# Altium integrated library Zarlink Comm CODEC Filter.IntLib: 20 symbols
Pins are listed as number, name and electrical type; pins without a type are passive.

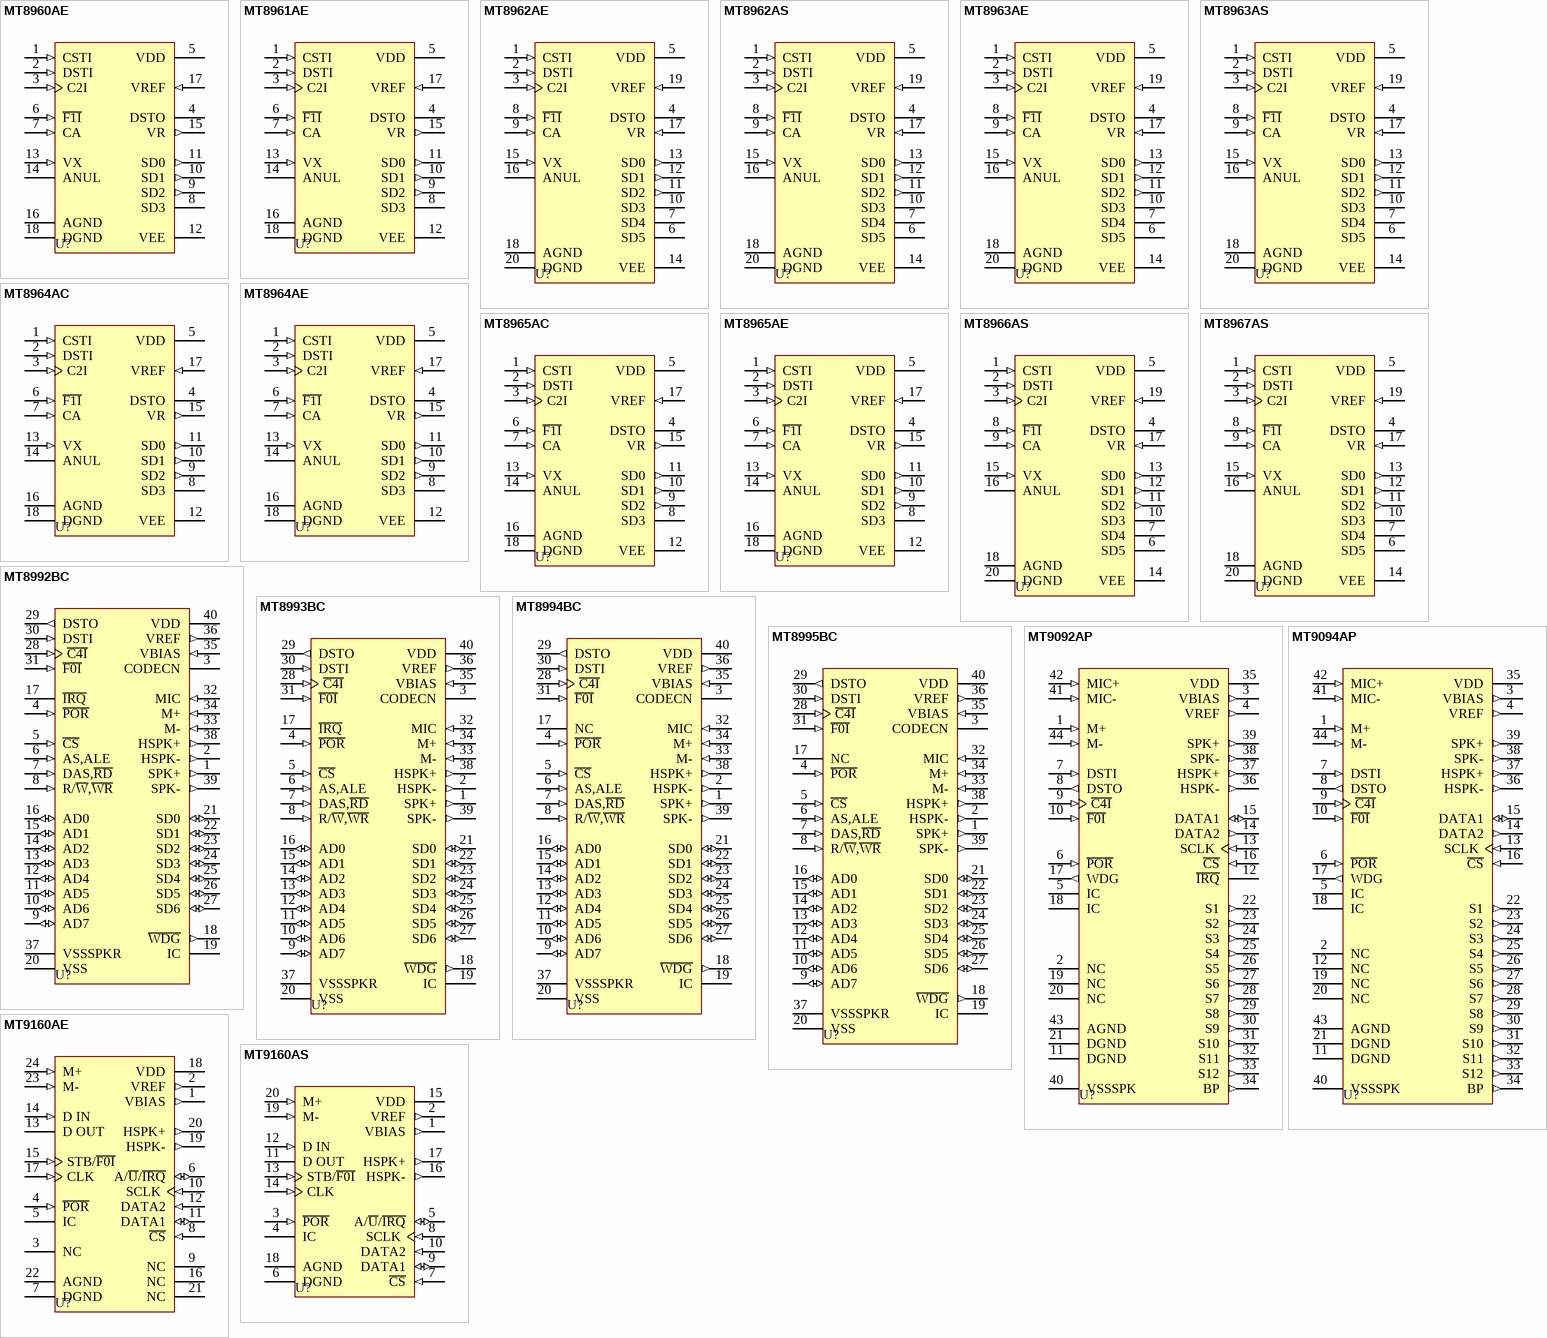
[diagram p0: symbols MT8960AE to MT9160AS]

## MT8960AE
designator U?
Integrated PCM Filter Codec; Published: 8-Jun-2000; LatestRevisionDate: 17-Jul-2002; LatestRevisionNote: Re-released for DXP Platform.; DatasheetVersion: Issue 10 May 1995; PackageVersion: 1997; PackageReference: PDIP18; Publisher: Altium Limited; PackageDescription: DIP; 18 Leads; Row Spacing 7.62 mm; Pitch 2.54 mm; ComponentLink1Description: Manufacturer Link; ComponentLink1URL: http://products.zarlink.com; ComponentLink2Description: Datasheet; ComponentLink2URL: http://assets.zarlink.com/DS/zarlink_MT8960_JUL_05.pdf
footprint PDIP18 (DIP; 18 Leads; Row Spacing 7.62 mm; Pitch 2.54 mm)
pins: 1 CSTI (in), 2 DSTI (in), 3 C2I (in), 4 DSTO (hiz), 5 VDD (power), 6 ~{F1I} (in), 7 CA (in), 8 SD3 (oc), 9 SD2 (out), 10 SD1 (out), 11 SD0 (out), 12 VEE (power), 13 VX (in), 14 ANUL, 15 VR (out), 16 AGND (power), 17 VREF (in), 18 DGND (power)

## MT8961AE
designator U?
Integrated PCM Filter Codec; Published: 8-Jun-2000; LatestRevisionDate: 17-Jul-2002; LatestRevisionNote: Re-released for DXP Platform.; DatasheetVersion: Issue 10 May 1995; PackageVersion: 1997; PackageReference: PDIP18; Publisher: Altium Limited; PackageDescription: DIP; 18 Leads; Row Spacing 7.62 mm; Pitch 2.54 mm; ComponentLink1Description: Manufacturer Link; ComponentLink1URL: http://products.zarlink.com; ComponentLink2Description: Datasheet; ComponentLink2URL: http://assets.zarlink.com/DS/zarlink_MT8960_JUL_05.pdf
footprint PDIP18 (DIP; 18 Leads; Row Spacing 7.62 mm; Pitch 2.54 mm)
pins: 1 CSTI (in), 2 DSTI (in), 3 C2I (in), 4 DSTO (hiz), 5 VDD (power), 6 ~{F1I} (in), 7 CA (in), 8 SD3 (oc), 9 SD2 (out), 10 SD1 (out), 11 SD0 (out), 12 VEE (power), 13 VX (in), 14 ANUL, 15 VR (out), 16 AGND (power), 17 VREF (in), 18 DGND (power)

## MT8962AE
designator U?
Integrated PCM Filter Codec; Published: 8-Jun-2000; LatestRevisionDate: 17-Jul-2002; LatestRevisionNote: Re-released for DXP Platform.; DatasheetVersion: Issue 10 May 1995; PackageVersion: 1997; PackageReference: PDIP20; Publisher: Altium Limited; PackageDescription: DIP; 20 Leads; Row Spacing 7.62 mm; Pitch 2.54 mm; Code_JEDEC: MS-001-AD; ComponentLink1Description: Manufacturer Link; ComponentLink1URL: http://products.zarlink.com; ComponentLink2Description: Datasheet; ComponentLink2URL: http://assets.zarlink.com/DS/zarlink_MT8960_JUL_05.pdf
footprint PDIP20 (DIP; 20 Leads; Row Spacing 7.62 mm; Pitch 2.54 mm)
pins: 1 CSTI (in), 2 DSTI (in), 3 C2I (in), 4 DSTO (hiz), 5 VDD (power), 6 SD5 (oc), 7 SD4 (oc), 8 ~{F1I} (in), 9 CA (in), 10 SD3 (oc), 11 SD2 (out), 12 SD1 (out), 13 SD0 (out), 14 VEE (power), 15 VX (in), 16 ANUL, 17 VR (in), 18 AGND (power), 19 VREF (in), 20 DGND (power)

## MT8962AS
designator U?
Integrated PCM Filter Codec; Published: 8-Jun-2000; LatestRevisionDate: 13-Apr-2006; LatestRevisionNote: IPC-7351 Footprint Added.; DatasheetVersion: Issue 10 May 1995; PackageVersion: 1997; PackageReference: SOIC20; Publisher: Altium Limited; PackageDescription: 20-Pin Small Outline Integrated Circuit 1.27 mm Pitch; Code_JEDEC: MS-013-AC; Code_IPC: SOIC127P1030-20; ComponentLink1Description: Manufacturer Link; ComponentLink1URL: http://products.zarlink.com; ComponentLink2Description: Datasheet; ComponentLink2URL: http://assets.zarlink.com/DS/zarlink_MT8960_JUL_05.pdf
footprint SOIC20_N (SOIC, 20-Leads, Body 12.8x7.6mm, Pitch 1.27mm, IPC Medium Density)
footprint SOIC20_L (SOIC, 20-Leads, Body 12.8x7.6mm, Pitch 1.27mm, IPC High Density)
footprint SOIC20_M (SOIC, 20-Leads, Body 12.8x7.6mm, Pitch 1.27mm, IPC Low Density)
pins: 1 CSTI (in), 2 DSTI (in), 3 C2I (in), 4 DSTO (hiz), 5 VDD (power), 6 SD5 (oc), 7 SD4 (oc), 8 ~{F1I} (in), 9 CA (in), 10 SD3 (oc), 11 SD2 (out), 12 SD1 (out), 13 SD0 (out), 14 VEE (power), 15 VX (in), 16 ANUL, 17 VR (in), 18 AGND (power), 19 VREF (in), 20 DGND (power)

## MT8963AE
designator U?
Integrated PCM Filter Codec; Published: 8-Jun-2000; LatestRevisionDate: 17-Jul-2002; LatestRevisionNote: Re-released for DXP Platform.; DatasheetVersion: Issue 10 May 1995; PackageVersion: 1997; PackageReference: PDIP20; Publisher: Altium Limited; PackageDescription: DIP; 20 Leads; Row Spacing 7.62 mm; Pitch 2.54 mm; Code_JEDEC: MS-001-AD; ComponentLink1Description: Manufacturer Link; ComponentLink1URL: http://products.zarlink.com; ComponentLink2Description: Datasheet; ComponentLink2URL: http://assets.zarlink.com/DS/zarlink_MT8960_JUL_05.pdf
footprint PDIP20 (DIP; 20 Leads; Row Spacing 7.62 mm; Pitch 2.54 mm)
pins: 1 CSTI (in), 2 DSTI (in), 3 C2I (in), 4 DSTO (hiz), 5 VDD (power), 6 SD5 (oc), 7 SD4 (oc), 8 ~{F1I} (in), 9 CA (in), 10 SD3 (oc), 11 SD2 (out), 12 SD1 (out), 13 SD0 (out), 14 VEE (power), 15 VX (in), 16 ANUL, 17 VR (in), 18 AGND (power), 19 VREF (in), 20 DGND (power)

## MT8963AS
designator U?
Integrated PCM Filter Codec; Published: 8-Jun-2000; LatestRevisionDate: 13-Apr-2006; LatestRevisionNote: IPC-7351 Footprint Added.; DatasheetVersion: Issue 10 May 1995; PackageVersion: 1997; PackageReference: SOIC20; Publisher: Altium Limited; PackageDescription: 20-Pin Small Outline Integrated Circuit 1.27 mm Pitch; Code_JEDEC: MS-013-AC; Code_IPC: SOIC127P1030-20; ComponentLink1Description: Manufacturer Link; ComponentLink1URL: http://products.zarlink.com; ComponentLink2Description: Datasheet; ComponentLink2URL: http://assets.zarlink.com/DS/zarlink_MT8960_JUL_05.pdf
footprint SOIC20_N (SOIC, 20-Leads, Body 12.8x7.6mm, Pitch 1.27mm, IPC Medium Density)
footprint SOIC20_L (SOIC, 20-Leads, Body 12.8x7.6mm, Pitch 1.27mm, IPC High Density)
footprint SOIC20_M (SOIC, 20-Leads, Body 12.8x7.6mm, Pitch 1.27mm, IPC Low Density)
pins: 1 CSTI (in), 2 DSTI (in), 3 C2I (in), 4 DSTO (hiz), 5 VDD (power), 6 SD5 (oc), 7 SD4 (oc), 8 ~{F1I} (in), 9 CA (in), 10 SD3 (oc), 11 SD2 (out), 12 SD1 (out), 13 SD0 (out), 14 VEE (power), 15 VX (in), 16 ANUL, 17 VR (in), 18 AGND (power), 19 VREF (in), 20 DGND (power)

## MT8964AC
designator U?
Integrated PCM Filter Codec; Published: 8-Jun-2000; LatestRevisionDate: 17-Jul-2002; LatestRevisionNote: Re-released for DXP Platform.; DatasheetVersion: Issue 10 May 1995; PackageVersion: 1995; PackageReference: CDIP18; Publisher: Altium Limited; PackageDescription: DIP; 18 Leads; Row Spacing 7.62 mm; Pitch 2.54 mm; ComponentLink1Description: Manufacturer Link; ComponentLink1URL: http://products.zarlink.com; ComponentLink2Description: Datasheet; ComponentLink2URL: http://assets.zarlink.com/DS/zarlink_MT8960_JUL_05.pdf
footprint CDIP18 (DIP; 18 Leads; Row Spacing 7.62 mm; Pitch 2.54 mm)
pins: 1 CSTI (in), 2 DSTI (in), 3 C2I (in), 4 DSTO (hiz), 5 VDD (power), 6 ~{F1I} (in), 7 CA (in), 8 SD3 (oc), 9 SD2 (out), 10 SD1 (out), 11 SD0 (out), 12 VEE (power), 13 VX (in), 14 ANUL, 15 VR (out), 16 AGND (power), 17 VREF (in), 18 DGND (power)

## MT8964AE
designator U?
Integrated PCM Filter Codec; Published: 8-Jun-2000; LatestRevisionDate: 17-Jul-2002; LatestRevisionNote: Re-released for DXP Platform.; DatasheetVersion: Issue 10 May 1995; PackageVersion: 1997; PackageReference: PDIP18; Publisher: Altium Limited; PackageDescription: DIP; 18 Leads; Row Spacing 7.62 mm; Pitch 2.54 mm; ComponentLink1Description: Manufacturer Link; ComponentLink1URL: http://products.zarlink.com; ComponentLink2Description: Datasheet; ComponentLink2URL: http://assets.zarlink.com/DS/zarlink_MT8960_JUL_05.pdf
footprint PDIP18 (DIP; 18 Leads; Row Spacing 7.62 mm; Pitch 2.54 mm)
pins: 1 CSTI (in), 2 DSTI (in), 3 C2I (in), 4 DSTO (hiz), 5 VDD (power), 6 ~{F1I} (in), 7 CA (in), 8 SD3 (oc), 9 SD2 (out), 10 SD1 (out), 11 SD0 (out), 12 VEE (power), 13 VX (in), 14 ANUL, 15 VR (out), 16 AGND (power), 17 VREF (in), 18 DGND (power)

## MT8965AC
designator U?
Integrated PCM Filter Codec; Published: 8-Jun-2000; LatestRevisionDate: 17-Jul-2002; LatestRevisionNote: Re-released for DXP Platform.; DatasheetVersion: Issue 10 May 1995; PackageVersion: 1995; PackageReference: CDIP18; Publisher: Altium Limited; PackageDescription: DIP; 18 Leads; Row Spacing 7.62 mm; Pitch 2.54 mm; ComponentLink1Description: Manufacturer Link; ComponentLink1URL: http://products.zarlink.com; ComponentLink2Description: Datasheet; ComponentLink2URL: http://assets.zarlink.com/DS/zarlink_MT8960_JUL_05.pdf
footprint CDIP18 (DIP; 18 Leads; Row Spacing 7.62 mm; Pitch 2.54 mm)
pins: 1 CSTI (in), 2 DSTI (in), 3 C2I (in), 4 DSTO (hiz), 5 VDD (power), 6 ~{F1I} (in), 7 CA (in), 8 SD3 (oc), 9 SD2 (out), 10 SD1 (out), 11 SD0 (out), 12 VEE (power), 13 VX (in), 14 ANUL, 15 VR (out), 16 AGND (power), 17 VREF (in), 18 DGND (power)

## MT8965AE
designator U?
Integrated PCM Filter Codec; Published: 8-Jun-2000; LatestRevisionDate: 17-Jul-2002; LatestRevisionNote: Re-released for DXP Platform.; DatasheetVersion: Issue 10 May 1995; PackageVersion: 1997; PackageReference: PDIP18; Publisher: Altium Limited; PackageDescription: DIP; 18 Leads; Row Spacing 7.62 mm; Pitch 2.54 mm; ComponentLink1Description: Manufacturer Link; ComponentLink1URL: http://products.zarlink.com; ComponentLink2Description: Datasheet; ComponentLink2URL: http://assets.zarlink.com/DS/zarlink_MT8960_JUL_05.pdf
footprint PDIP18 (DIP; 18 Leads; Row Spacing 7.62 mm; Pitch 2.54 mm)
pins: 1 CSTI (in), 2 DSTI (in), 3 C2I (in), 4 DSTO (hiz), 5 VDD (power), 6 ~{F1I} (in), 7 CA (in), 8 SD3 (oc), 9 SD2 (out), 10 SD1 (out), 11 SD0 (out), 12 VEE (power), 13 VX (in), 14 ANUL, 15 VR (out), 16 AGND (power), 17 VREF (in), 18 DGND (power)

## MT8966AS
designator U?
Integrated PCM Filter Codec; Published: 8-Jun-2000; LatestRevisionDate: 13-Apr-2006; LatestRevisionNote: IPC-7351 Footprint Added.; DatasheetVersion: Issue 10 May 1995; PackageVersion: 1997; PackageReference: SOIC20; Publisher: Altium Limited; PackageDescription: 20-Pin Small Outline Integrated Circuit 1.27 mm Pitch; Code_JEDEC: MS-013-AC; Code_IPC: SOIC127P1030-20; ComponentLink1Description: Manufacturer Link; ComponentLink1URL: http://products.zarlink.com; ComponentLink2Description: Datasheet; ComponentLink2URL: http://assets.zarlink.com/DS/zarlink_MT8960_JUL_05.pdf
footprint SOIC20_N (SOIC, 20-Leads, Body 12.8x7.6mm, Pitch 1.27mm, IPC Medium Density)
footprint SOIC20_L (SOIC, 20-Leads, Body 12.8x7.6mm, Pitch 1.27mm, IPC High Density)
footprint SOIC20_M (SOIC, 20-Leads, Body 12.8x7.6mm, Pitch 1.27mm, IPC Low Density)
pins: 1 CSTI (in), 2 DSTI (in), 3 C2I (in), 4 DSTO (hiz), 5 VDD (power), 6 SD5 (oc), 7 SD4 (oc), 8 ~{F1I} (in), 9 CA (in), 10 SD3 (oc), 11 SD2 (out), 12 SD1 (out), 13 SD0 (out), 14 VEE (power), 15 VX (in), 16 ANUL, 17 VR (in), 18 AGND (power), 19 VREF (in), 20 DGND (power)

## MT8967AS
designator U?
Integrated PCM Filter Codec; Published: 8-Jun-2000; LatestRevisionDate: 13-Apr-2006; LatestRevisionNote: IPC-7351 Footprint Added.; DatasheetVersion: Issue 10 May 1995; PackageVersion: 1997; PackageReference: SOIC20; Publisher: Altium Limited; PackageDescription: 20-Pin Small Outline Integrated Circuit 1.27 mm Pitch; Code_JEDEC: MS-013-AC; Code_IPC: SOIC127P1030-20; ComponentLink1Description: Manufacturer Link; ComponentLink1URL: http://products.zarlink.com; ComponentLink2Description: Datasheet; ComponentLink2URL: http://assets.zarlink.com/DS/zarlink_MT8960_JUL_05.pdf
footprint SOIC20_N (SOIC, 20-Leads, Body 12.8x7.6mm, Pitch 1.27mm, IPC Medium Density)
footprint SOIC20_L (SOIC, 20-Leads, Body 12.8x7.6mm, Pitch 1.27mm, IPC High Density)
footprint SOIC20_M (SOIC, 20-Leads, Body 12.8x7.6mm, Pitch 1.27mm, IPC Low Density)
pins: 1 CSTI (in), 2 DSTI (in), 3 C2I (in), 4 DSTO (hiz), 5 VDD (power), 6 SD5 (oc), 7 SD4 (oc), 8 ~{F1I} (in), 9 CA (in), 10 SD3 (oc), 11 SD2 (out), 12 SD1 (out), 13 SD0 (out), 14 VEE (power), 15 VX (in), 16 ANUL, 17 VR (in), 18 AGND (power), 19 VREF (in), 20 DGND (power)

## MT8992BC
designator U?
Digital Telephone with HDLC; Note: Tie pin 19 to VSS for normal operation.; Published: 8-Jun-2000; LatestRevisionDate: 17-Jul-2002; LatestRevisionNote: Re-released for DXP Platform.; DatasheetVersion: Issue 5 November 1991; PackageVersion: 1995; PackageReference: CDIP40; Publisher: Altium Limited; PackageDescription: DIP; 40 Leads; Row Spacing 15.24 mm; Pitch 2.54 mm; Code_JEDEC: MS-011-AC; ComponentLink1Description: Manufacturer Link; ComponentLink1URL: http://products.zarlink.com
footprint CDIP40 (DIP; 40 Leads; Row Spacing 15.24 mm; Pitch 2.54 mm)
pins: 1 SPK+ (out), 2 HSPK- (out), 3 CODECN, 4 ~{POR} (in), 5 ~{CS} (in), 6 AS,ALE (in), 7 DAS,~{RD} (in), 8 R/~{W},~{WR} (in), 9 AD7 (io), 10 AD6 (io), 11 AD5 (io), 12 AD4 (io), 13 AD3 (io), 14 AD2 (io), 15 AD1 (io), 16 AD0 (io), 17 ~{IRQ} (oc), 18 ~{WDG} (out), 19 IC, 20 VSS (power), 21 SD0 (io), 22 SD1 (io), 23 SD2 (io), 24 SD3 (io), 25 SD4 (io), 26 SD5 (io), 27 SD6 (io), 28 ~{C4I} (in), 29 DSTO (out), 30 DSTI (in), 31 ~{F0I} (in), 32 MIC (in), 33 M- (in), 34 M+ (in), 35 VBIAS (in), 36 VREF (out), 37 VSSSPKR (power), 38 HSPK+ (out), 39 SPK- (out), 40 VDD (power)

## MT8993BC
designator U?
Digital Telephone with HDLC; Note: Tie pin 19 to VSS for normal operation.; Published: 8-Jun-2000; LatestRevisionDate: 17-Jul-2002; LatestRevisionNote: Re-released for DXP Platform.; DatasheetVersion: Issue 5 November 1991; PackageVersion: 1995; PackageReference: CDIP40; Publisher: Altium Limited; PackageDescription: DIP; 40 Leads; Row Spacing 15.24 mm; Pitch 2.54 mm; Code_JEDEC: MS-011-AC; ComponentLink1Description: Manufacturer Link; ComponentLink1URL: http://products.zarlink.com
footprint CDIP40 (DIP; 40 Leads; Row Spacing 15.24 mm; Pitch 2.54 mm)
pins: 1 SPK+ (out), 2 HSPK- (out), 3 CODECN, 4 ~{POR} (in), 5 ~{CS} (in), 6 AS,ALE (in), 7 DAS,~{RD} (in), 8 R/~{W},~{WR} (in), 9 AD7 (io), 10 AD6 (io), 11 AD5 (io), 12 AD4 (io), 13 AD3 (io), 14 AD2 (io), 15 AD1 (io), 16 AD0 (io), 17 ~{IRQ} (oc), 18 ~{WDG} (out), 19 IC, 20 VSS (power), 21 SD0 (io), 22 SD1 (io), 23 SD2 (io), 24 SD3 (io), 25 SD4 (io), 26 SD5 (io), 27 SD6 (io), 28 ~{C4I} (in), 29 DSTO (out), 30 DSTI (in), 31 ~{F0I} (in), 32 MIC (in), 33 M- (in), 34 M+ (in), 35 VBIAS (in), 36 VREF (out), 37 VSSSPKR (power), 38 HSPK+ (out), 39 SPK- (out), 40 VDD (power)

## MT8994BC
designator U?
Digital Telephone with HDLC; Note: Tie pin 19 to VSS for normal operation.; Published: 8-Jun-2000; LatestRevisionDate: 17-Jul-2002; LatestRevisionNote: Re-released for DXP Platform.; DatasheetVersion: Issue 6 November 1991; PackageVersion: 1995; PackageReference: CDIP40; Publisher: Altium Limited; PackageDescription: DIP; 40 Leads; Row Spacing 15.24 mm; Pitch 2.54 mm; Code_JEDEC: MS-011-AC; ComponentLink1Description: Manufacturer Link; ComponentLink1URL: http://products.zarlink.com
footprint CDIP40 (DIP; 40 Leads; Row Spacing 15.24 mm; Pitch 2.54 mm)
pins: 1 SPK+ (out), 2 HSPK- (out), 3 CODECN, 4 ~{POR} (in), 5 ~{CS} (in), 6 AS,ALE (in), 7 DAS,~{RD} (in), 8 R/~{W},~{WR} (in), 9 AD7 (io), 10 AD6 (io), 11 AD5 (io), 12 AD4 (io), 13 AD3 (io), 14 AD2 (io), 15 AD1 (io), 16 AD0 (io), 17 NC, 18 ~{WDG} (out), 19 IC, 20 VSS (power), 21 SD0 (io), 22 SD1 (io), 23 SD2 (io), 24 SD3 (io), 25 SD4 (io), 26 SD5 (io), 27 SD6 (io), 28 ~{C4I} (in), 29 DSTO (out), 30 DSTI (in), 31 ~{F0I} (in), 32 MIC (in), 33 M- (in), 34 M+ (in), 35 VBIAS (in), 36 VREF (out), 37 VSSSPKR (power), 38 HSPK+ (out), 39 SPK- (out), 40 VDD (power)

## MT8995BC
designator U?
Digital Telephone with HDLC; Note: Tie pin 19 to VSS for normal operation.; Published: 8-Jun-2000; LatestRevisionDate: 17-Jul-2002; LatestRevisionNote: Re-released for DXP Platform.; DatasheetVersion: Issue 6 November 1991; PackageVersion: 1995; PackageReference: CDIP40; Publisher: Altium Limited; PackageDescription: DIP; 40 Leads; Row Spacing 15.24 mm; Pitch 2.54 mm; Code_JEDEC: MS-011-AC; ComponentLink1Description: Manufacturer Link; ComponentLink1URL: http://products.zarlink.com
footprint CDIP40 (DIP; 40 Leads; Row Spacing 15.24 mm; Pitch 2.54 mm)
pins: 1 SPK+ (out), 2 HSPK- (out), 3 CODECN, 4 ~{POR} (in), 5 ~{CS} (in), 6 AS,ALE (in), 7 DAS,~{RD} (in), 8 R/~{W},~{WR} (in), 9 AD7 (io), 10 AD6 (io), 11 AD5 (io), 12 AD4 (io), 13 AD3 (io), 14 AD2 (io), 15 AD1 (io), 16 AD0 (io), 17 NC, 18 ~{WDG} (out), 19 IC, 20 VSS (power), 21 SD0 (io), 22 SD1 (io), 23 SD2 (io), 24 SD3 (io), 25 SD4 (io), 26 SD5 (io), 27 SD6 (io), 28 ~{C4I} (in), 29 DSTO (out), 30 DSTI (in), 31 ~{F0I} (in), 32 MIC (in), 33 M- (in), 34 M+ (in), 35 VBIAS (in), 36 VREF (out), 37 VSSSPKR (power), 38 HSPK+ (out), 39 SPK- (out), 40 VDD (power)

## MT9092AP
designator U?
Digital Telephone with HDLC (DPhone-II); Note: Tie pins 5 and 18 to VSS for normal operation.; Published: 8-Jun-2000; LatestRevisionDate: 13-Apr-2006; LatestRevisionNote: IPC-7351 Footprint Added.; DatasheetVersion: Issue 2 May 1995; PackageVersion: 1997; PackageReference: PLCC44; Publisher: Altium Limited; PackageDescription: 44-Pin Leaded Chip Carrier 1.27 mm Pitch; Code_IPC: PLCC-44; ComponentLink1Description: Manufacturer Link; ComponentLink1URL: http://products.zarlink.com; ComponentLink2Description: Datasheet; ComponentLink2URL: http://assets.zarlink.com/DS/zarlink_MT9092_JAN_01.pdf
footprint PLCC44_N (Leaded Chip Carrier, 44-Leads, Body 16.6x16.6mm, Pitch 1.27mm, IPC Medium Density)
footprint PLCC44_L (Leaded Chip Carrier, 44-Leads, Body 16.6x16.6mm, Pitch 1.27mm, IPC High Density)
footprint PLCC44_M (Leaded Chip Carrier, 44-Leads, Body 16.6x16.6mm, Pitch 1.27mm, IPC Low Density)
pins: 1 M+ (in), 2 NC, 3 VBIAS (out), 4 VREF (out), 5 IC, 6 ~{POR} (in), 7 DSTI (in), 8 DSTO (out), 9 ~{C4I} (in), 10 ~{F0I} (in), 11 DGND (power), 12 ~{IRQ} (oc), 13 SCLK (in), 14 DATA2 (out), 15 DATA1 (io), 16 ~{CS} (in), 17 WDG (out), 18 IC, 19 NC, 20 NC, 21 DGND (power), 22 S1 (out), 23 S2 (out), 24 S3 (out), 25 S4 (out), 26 S5 (out), 27 S6 (out), 28 S7 (out), 29 S8 (out), 30 S9 (out), 31 S10 (out), 32 S11 (out), 33 S12 (out), 34 BP (out), 35 VDD (power), 36 HSPK- (out), 37 HSPK+ (out), 38 SPK- (out), 39 SPK+ (out), 40 VSSSPK (power), 41 MIC- (in), 42 MIC+ (in), 43 AGND (power), 44 M- (in)

## MT9094AP
designator U?
Digital Telephone  (DPhone-II); Note: Tie pins 5 and 18 to VSS for normal operation.; Published: 8-Jun-2000; LatestRevisionDate: 13-Apr-2006; LatestRevisionNote: IPC-7351 Footprint Added.; DatasheetVersion: Issue 2 May 1995; PackageVersion: 1997; PackageReference: PLCC44; Publisher: Altium Limited; PackageDescription: 44-Pin Leaded Chip Carrier 1.27 mm Pitch; Code_IPC: PLCC-44; ComponentLink1Description: Manufacturer Link; ComponentLink1URL: http://products.zarlink.com; ComponentLink2Description: Datasheet; ComponentLink2URL: http://assets.zarlink.com/DS/zarlink_MT9094_FEB_05.pdf
footprint PLCC44_N (Leaded Chip Carrier, 44-Leads, Body 16.6x16.6mm, Pitch 1.27mm, IPC Medium Density)
footprint PLCC44_L (Leaded Chip Carrier, 44-Leads, Body 16.6x16.6mm, Pitch 1.27mm, IPC High Density)
footprint PLCC44_M (Leaded Chip Carrier, 44-Leads, Body 16.6x16.6mm, Pitch 1.27mm, IPC Low Density)
pins: 1 M+ (in), 2 NC, 3 VBIAS (out), 4 VREF (out), 5 IC, 6 ~{POR} (in), 7 DSTI (in), 8 DSTO (out), 9 ~{C4I} (in), 10 ~{F0I} (in), 11 DGND (power), 12 NC, 13 SCLK (in), 14 DATA2 (out), 15 DATA1 (io), 16 ~{CS} (in), 17 WDG (out), 18 IC, 19 NC, 20 NC, 21 DGND (power), 22 S1 (out), 23 S2 (out), 24 S3 (out), 25 S4 (out), 26 S5 (out), 27 S6 (out), 28 S7 (out), 29 S8 (out), 30 S9 (out), 31 S10 (out), 32 S11 (out), 33 S12 (out), 34 BP (out), 35 VDD (power), 36 HSPK- (out), 37 HSPK+ (out), 38 SPK- (out), 39 SPK+ (out), 40 VSSSPK (power), 41 MIC- (in), 42 MIC+ (in), 43 AGND (power), 44 M- (in)

## MT9160AE
designator U?
5 Volt Multi-Featured Codec (MFC); Note: Tie pin 5 to VSS; Published: 8-Jun-2000; LatestRevisionDate: 17-Jul-2002; LatestRevisionNote: Re-released for DXP Platform.; DatasheetVersion: Issue 3 May 1995; PackageVersion: 1997; PackageReference: PDIP24; Publisher: Altium Limited; PackageDescription: DIP; 24 Leads; Row Spacing 15.24 mm; Pitch 2.54 mm; Code_JEDEC: MS-011-AA; ComponentLink1Description: Manufacturer Link; ComponentLink1URL: http://products.zarlink.com
footprint PDIP24 (DIP; 24 Leads; Row Spacing 15.24 mm; Pitch 2.54 mm)
pins: 1 VBIAS (out), 2 VREF (out), 3 NC, 4 ~{POR} (in), 5 IC, 6 A/~{U}/~{IRQ} (io), 7 DGND (power), 8 ~{CS} (in), 9 NC, 10 SCLK (in), 11 DATA1 (io), 12 DATA2 (in), 13 D OUT (hiz), 14 D IN (in), 15 STB/~{F0I} (in), 16 NC, 17 CLK (in), 18 VDD (power), 19 HSPK- (out), 20 HSPK+ (out), 21 NC, 22 AGND (power), 23 M- (in), 24 M+ (in)

## MT9160AS
designator U?
5 Volt Multi-Featured Codec (MFC); Note: Tie pin 4 to VSS; Published: 8-Jun-2000; LatestRevisionDate: 13-Apr-2006; LatestRevisionNote: IPC-7351 Footprint Added.; DatasheetVersion: Issue 3 May 1995; PackageVersion: 1997; PackageReference: SOIC20; Publisher: Altium Limited; PackageDescription: 20-Pin Small Outline Integrated Circuit 1.27 mm Pitch; Code_JEDEC: MS-013-AC; Code_IPC: SOIC127P1030-20; ComponentLink1Description: Manufacturer Link; ComponentLink1URL: http://products.zarlink.com
footprint SOIC20_N (SOIC, 20-Leads, Body 12.8x7.6mm, Pitch 1.27mm, IPC Medium Density)
footprint SOIC20_L (SOIC, 20-Leads, Body 12.8x7.6mm, Pitch 1.27mm, IPC High Density)
footprint SOIC20_M (SOIC, 20-Leads, Body 12.8x7.6mm, Pitch 1.27mm, IPC Low Density)
pins: 1 VBIAS (out), 2 VREF (out), 3 ~{POR} (in), 4 IC, 5 A/~{U}/~{IRQ} (io), 6 DGND (power), 7 ~{CS} (in), 8 SCLK (in), 9 DATA1 (io), 10 DATA2 (in), 11 D OUT (hiz), 12 D IN (in), 13 STB/~{F0I} (in), 14 CLK (in), 15 VDD (power), 16 HSPK- (out), 17 HSPK+ (out), 18 AGND (power), 19 M- (in), 20 M+ (in)